# Altium schematic symbol library THE_BOYS_REO.SchLib: 8 symbols
Pins are listed as number, name and electrical type; pins without a type are passive.

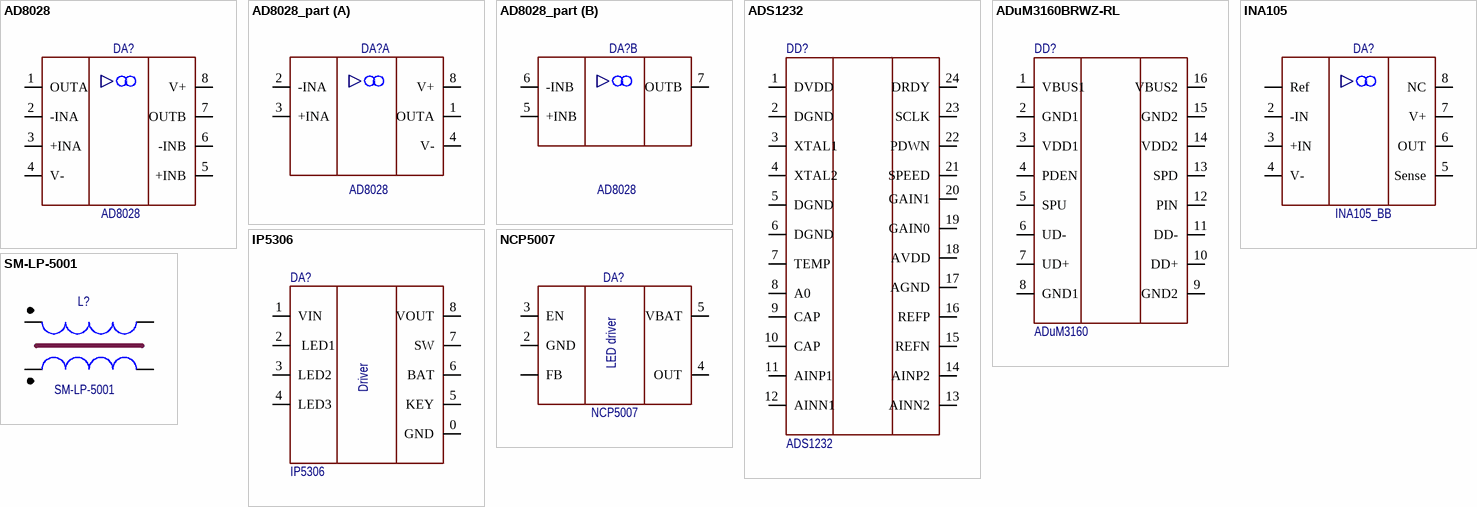
[diagram p0: symbols AD8028 to SM-LP-5001]

## AD8028
designator DA?
footprint IC: SOIC 8
pins: 1 OUTA, 2 -INA, 3 +INA, 4 V-, 5 +INB, 6 -INB, 7 OUTB, 8 V+

## AD8028_part
designator DA?, comment AD8028
footprint IC: SOIC 8
part A pins: 1 OUTA, 2 -INA, 3 +INA, 4 V-, 8 V+
part B pins: 5 +INB, 6 -INB, 7 OUTB

## ADS1232
designator DD?
footprint TSSOP-24
pins: 1 DVDD, 2 DGND, 3 XTAL1, 4 XTAL2, 5 DGND, 6 DGND, 7 TEMP, 8 A0, 9 CAP, 10 CAP, 11 AINP1, 12 AINN1, 13 AINN2, 14 AINP2, 15 REFN, 16 REFP, 17 AGND, 18 AVDD, 19 GAIN0, 20 GAIN1, 21 SPEED, 22 PDWN, 23 SCLK, 24 DRDY

## ADuM3160BRWZ-RL
designator DD?, comment ADuM3160
footprint IC: SOIC 16 (SOIC, 16-Leads, Body 10,0x4,0mm (max), Pitch 1,27mm, IPC Medium Density)
pins: 1 VBUS1, 2 GND1, 3 VDD1, 4 PDEN, 5 SPU, 6 UD-, 7 UD+, 8 GND1, 9 GND2, 10 DD+, 11 DD-, 12 PIN, 13 SPD, 14 VDD2, 15 GND2, 16 VBUS2

## INA105
designator DA?, comment INA105_BB
footprint IC: SOIC 8
pins: 1 Ref, 2 -IN, 3 +IN, 4 V-, 5 Sense, 6 OUT, 7 V+, 8 NC

## IP5306
designator DA?
footprint IC: SOIC 8 TP
pins: 0 GND, 1 VIN, 2  LED1, 3 LED2, 4 LED3, 5 KEY, 6 BAT, 7 SW, 8 VOUT
text: Driver

## NCP5007
designator DA?
footprint IC: SOT 23 5pin
pins: 1 FB, 2 GND, 3 EN, 4 OUT, 5 VBAT
text: LED driver

## SM-LP-5001
designator L?
footprint IND: SM-LP-5001E
pins: 1 3, 2 1, 3 6, 4